# Altium footprint library DZDH0401DW.PcbLib: 1 footprints
Each footprint in its own frame and in the unit in brackets; x right, y up, seen from the top. Pads: shape width x height; smd on the part's side, far side on the other; paste and mask are expansions set on the pad; w line width, h text height; cw(c..) or ccw(c..) is an arc to the next point about the centre after c.
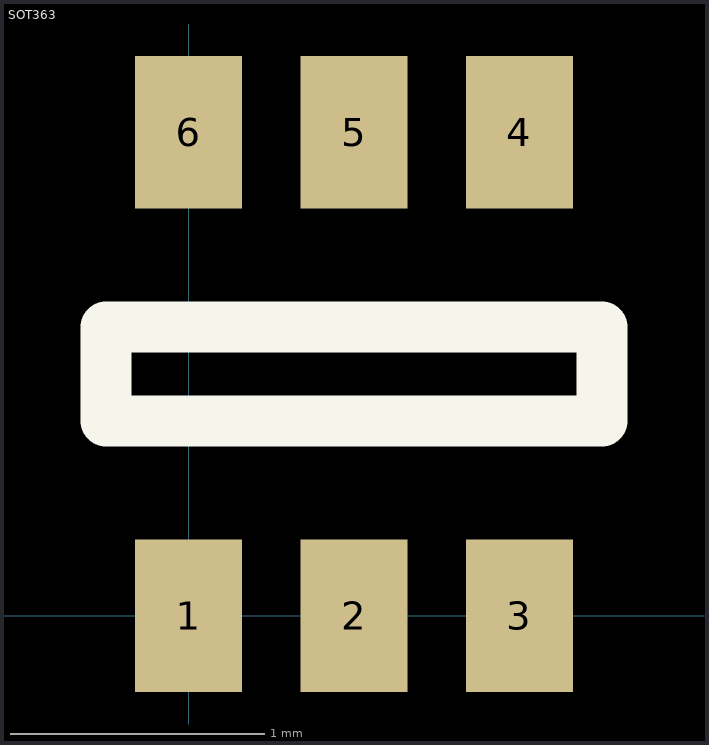
[diagram p0: the footprint, top view; thin cyan lines are the x and y axes]

## SOT363 [mm]
pads (6):
  rect 0.42x0.6 smd: 1(0,0) 2(0.65,0) 3(1.3,0) 4(1.3,1.9) 5(0.65,1.9) 6(0,1.9)
Top Overlay:
  lines w0.2: -0.325,0.787 -0.325,1.135 1.625,1.135 1.625,0.765 -0.325,0.765 -0.325,1.112
3D body "SOT-363.stp": height 0.95, standoff 0, extent -0.4,-0.1 1.7,2